# EAGLE library part ACS723 (library FlashPCB_Sensors)
ACS723 - SENSOR CURRENT HALL 20A AC/DC Technical Specifications: Current Sensor 20A 1 Channel Hall Effect, Open Loop Bidirectional) Sensor Type: Hall Effect Output Type: Ratiometric, Voltage Accuracy: +/- 3% Supply Voltage: 4.4 ~5.5V Supply Current (MAX): 14mA Bandwidth Options: 20kHz, 80kHz Component Search: ACS723 <[FLASHPCB URL]> Datasheet: ACS723 - High-Accuracy, Galvanically Isolated Current Sensor IC with Small Footprint SOIC8 Package <https://www.allegromicro.com/~/media/Files/Datasheets/ACS723-Datasheet.ashx>
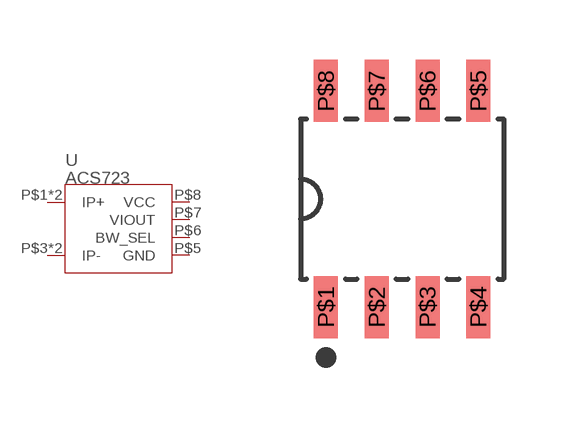
[diagram p1: symbol with the pads of SOIC-8-150MIL-3.9MM; footprint SOIC-8-150MIL-3.9MM]

Designator prefix U

## ACS723SOIC  [SOIC-8-150MIL-3.9MM]
P$1  IP+
P$2  IP+
P$3  IP-
P$4  IP-
P$5  GND
P$6  BW_SEL
P$7  VIOUT
P$8  VCC

## Footprint SOIC-8-150MIL-3.9MM (pad centres in mm)
smd 0.6 x 1.55: P$1 -1.905,-2.7; P$2 -0.635,-2.7; P$3 0.635,-2.7; P$4 1.905,-2.7; P$5 1.905,2.7; P$6 0.635,2.7; P$7 -0.635,2.7; P$8 -1.905,2.7